# Altium footprint library DC+DC.PcbLib: 1 footprints
Each footprint in its own frame and in the unit in brackets; x right, y up, seen from the top. Pads: shape width x height; smd on the part's side, far side on the other; paste and mask are expansions set on the pad; w line width, h text height; cw(c..) or ccw(c..) is an arc to the next point about the centre after c.
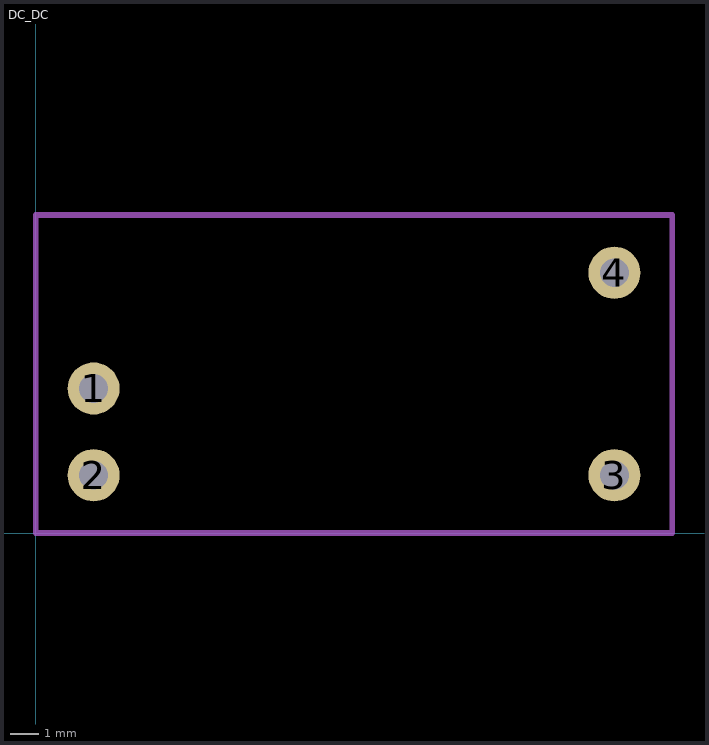
[diagram p0: the footprint, top view; thin cyan lines are the x and y axes]

## DC_DC [mm]
pads (4):
  round 1.8 hole 1: 1(2,5) 2(2,2) 3(20,2) 4(20,9)
Mechanical 1:
  lines w0.2: 0,0 22,0 22,11 0,11 0,0